# Altium footprint library ASCODV24000MHzLRT3.PcbLib: 1 footprints
Each footprint in its own frame and in the unit in brackets; x right, y up, seen from the top. Pads: shape width x height; smd on the part's side, far side on the other; paste and mask are expansions set on the pad; w line width, h text height; cw(c..) or ccw(c..) is an arc to the next point about the centre after c.
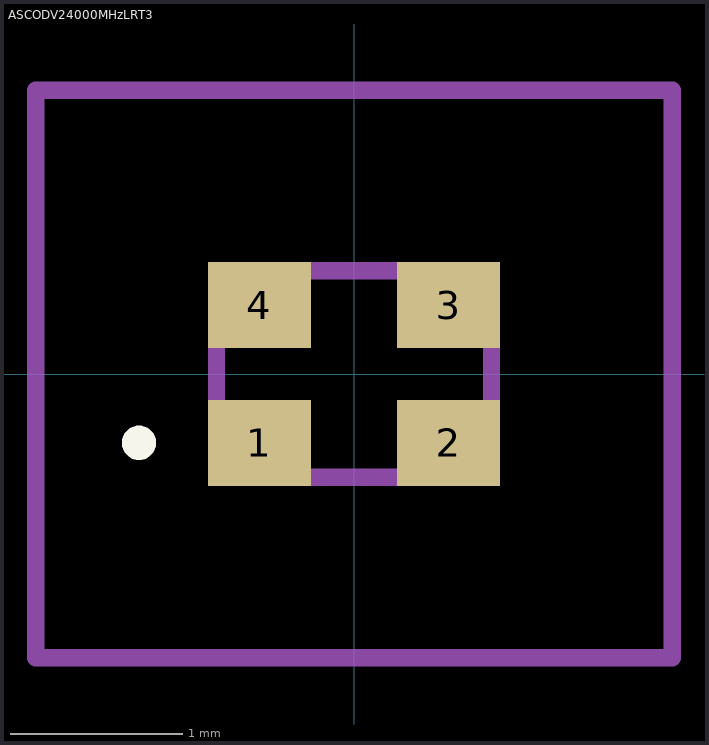
[diagram p0: the footprint, top view; thin cyan lines are the x and y axes]

## ASCODV24000MHzLRT3 [mm]
pads (4):
  rect 0.6x0.5 smd: 1(-0.55,-0.4) 2(0.55,-0.4) 3(0.55,0.4) 4(-0.55,0.4)
Top Overlay:
  lines w0.1: -1.3,-0.4 cw(c-1.25,-0.4) -1.2,-0.4 cw(c-1.25,-0.4) -1.3,-0.4
Mechanical 15:
  lines w0.1: -0.8,-0.6 -0.8,0.6 0.8,0.6 0.8,-0.6 -0.8,-0.6
Mechanical 20:
  lines w0.1: -1.85,-1.65 -1.85,1.65 1.85,1.65 1.85,-1.65 -1.85,-1.65
3D body "ASCODV-24.000MHz-LR-T3.stp": height 0.9, standoff 0, extent -0.8,-0.6 0.8,0.6